# Altium integrated library R0603.IntLib: 1 symbol
Pins are listed as number, name and electrical type; pins without a type are passive.

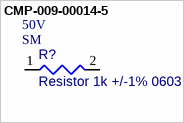
[diagram p0: symbol CMP-009-00014-5]

## CMP-009-00014-5
designator R?, comment Resistor 1k +/-1% 0603 100 mW  value 1k  Mounting Technology: SM  Voltage Rating: 50V  Pins: 2  Case/Package: 0603  Power: 100mW  Min Operating Temperature: -55°C  Tolerance: 1%  RoHS Compliant: True  Max Operating Temperature: 155°C
Chip Resistor, 1 KOhm, +/-1%, 0.1 W, -55 to 155 degC, 0603 (1608 Metric)
footprint RESC0805(2012)_L (Chip Resistor, Body 2.0x1.3mm, IPC High Density)
footprint RESC1608X55X25ML10T15 (Chip Resistor, 2-Leads, Body 1.70x0.90mm, IPC Low Density)
footprint RESC1608X55X25NL10T15 (Chip Resistor, 2-Leads, Body 1.70x0.90mm, IPC Medium Density)
footprint RESC1608X55X25LL10T15 (Chip Resistor, 2-Leads, Body 1.70x0.90mm, IPC High Density)
pins: 1, 2
1 alternate drawing of the same symbol